# Altium schematic symbol library BQ24232.SchLib: 1 symbol
Pins are listed as number, name and electrical type; pins without a type are passive.

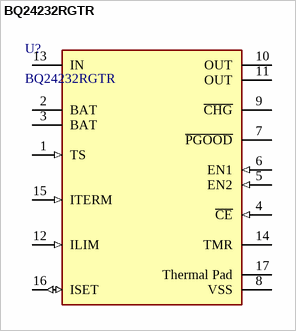
[diagram p0: symbol BQ24232RGTR]

## BQ24232RGTR
designator U?
IC LI-ION CHARGE PWR MGMT 16QFN BQ24232RGTR
footprint FP-RGTR_MFG
pins: 1 TS (in), 2 BAT (power), 3 BAT (power), 4 ~{CE} (in), 5 EN2 (in), 6 EN1 (in), 7 ~{PGOOD} (hiz), 8 VSS (power), 9 ~{CHG} (hiz), 10 OUT (power), 11 OUT (power), 12 ILIM (in), 13 IN (power), 14 TMR, 15 ITERM (in), 16 ISET (io), 17 Thermal Pad (power)